# Altium footprint library Resistor_1W.PcbLib: 1 footprints
Each footprint in its own frame and in the unit in brackets; x right, y up, seen from the top. Pads: shape width x height; smd on the part's side, far side on the other; paste and mask are expansions set on the pad; w line width, h text height; cw(c..) or ccw(c..) is an arc to the next point about the centre after c.
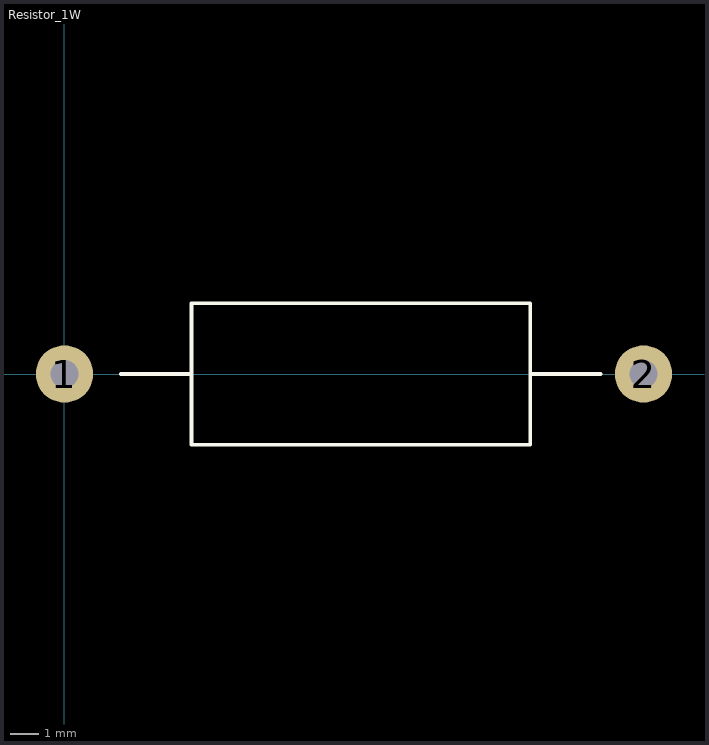
[diagram p0: the footprint, top view; thin cyan lines are the x and y axes]

## Resistor_1W [mil]
pads (2):
  round 80 hole 39.37: 1(0,0) 2(807.48,0)
Top Overlay:
  lines w5: 78.74,0 177.17,0 ; 748.03,0 649.61,0 ; 177.17,0 177.17,-98.43 649.61,-98.43 649.61,0 ; 177.17,0 177.17,98.43 649.61,98.43 649.61,0